# Altium integrated library Optocoupler.IntLib: 26 symbols
Pins are listed as number, name and electrical type; pins without a type are passive.

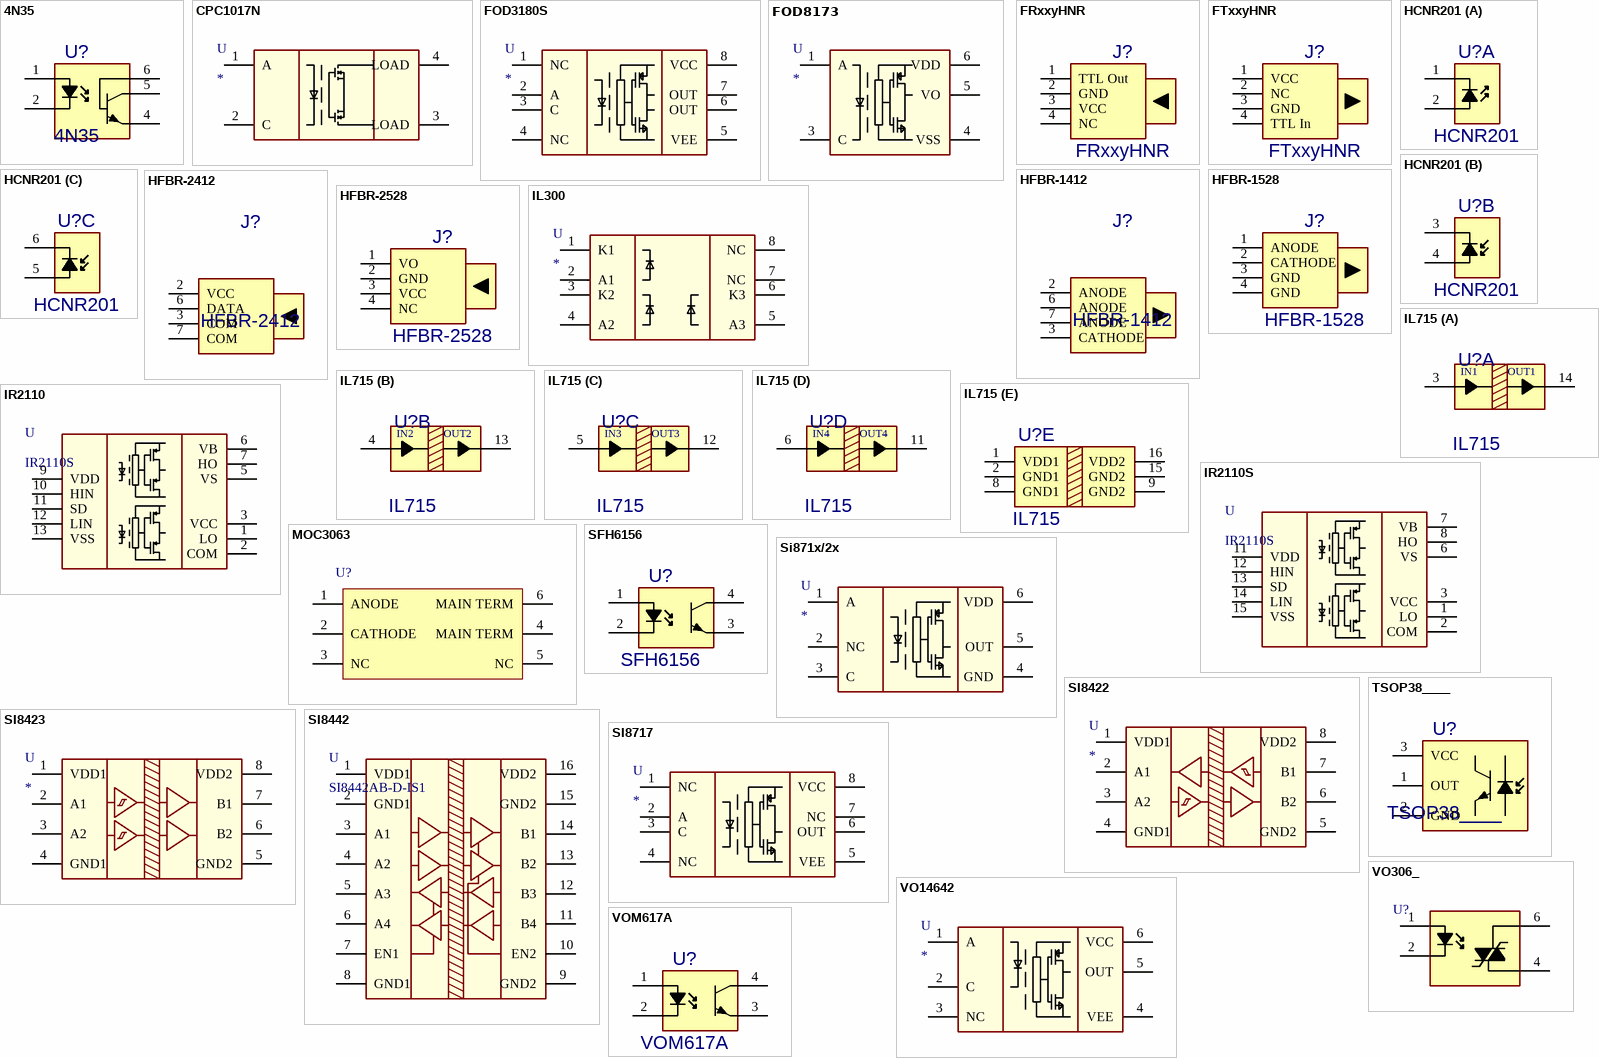
[diagram p0: symbols 4N35 to VOM617A]

## 4N35
designator U?
Optocoupler, Phototransistor Output, with Base Connection; Value: 4N35
footprint DIP6 P2.54 W7.62 H5.0 (8-Pin Dual in Line Integrated Circuit 2.54 Pitch, 7.62 Width, Case 8.5x6.5mm)
pins: 1 A, 2 K, 4 E, 5 C, 6 E

## CPC1017N
designator U
4-Pin SOP OptoMOS® Relay; Value: *
footprint SOP4 P2.54 C3.8X4.1 H2.0
pins: 1 A, 2 C, 3 LOAD (power), 4 LOAD (power)

## FOD3180S
designator U
Optocoupler; Value: *
footprint SO8L P2.54 C6.6X9.7 H5.0 (SOPL, 8-Leads, Body 6.6x9.7mm, Pitch 2.54mm, IPC High Density)
pins: 1 NC, 2 A, 3 C, 4 NC, 5 VEE (power), 6 OUT, 7 OUT, 8 VCC (power)

## FOD8173​
designator U
Gate Optocoupler; Value: *
footprint SO6 P1.27 C4.5X6.8 H3.5 (6-Pin Small Outline Integrated Circuit 1.27 mm Pitch, IPC Medium Density)
pins: 1 A, 3 C, 4 VSS (power), 5 VO, 6 VDD (power)

## FRxxyHNR
designator J?
Fiber Optic Receiver; Value: *
footprint FzxxyHNR (Connecteur fibre optique)
pins: 1 TTL Out, 2 GND (power), 3 VCC (power), 4 NC (power), 5 GND (power), 8 GND (power)

## FTxxyHNR
designator J?
Fiber Optic Transmitter; Value: *
footprint FzxxyHNR (Connecteur fibre optique)
pins: 1 VCC, 2 NC, 3 GND, 4 TTL In, 5 GND, 8 GND

## HCNR201
designator U?
High Linearity Analog Optocouplers; Value: HCNR201
footprint GullWing8 P2.54 C11.2x9.0 H4.0 (GullWing, 8-Leads, Body 11.2x9.0mm, Pitch 2.54mm)
part A pins: 1 LED C, 2 LED A
part B pins: 3 PD1 C, 4 PD1 A
part C pins: 5 PD2 A, 6 PD2 C

## HFBR-1412
designator J?
Fiber Optic Transmitter - HP; Value: *
footprint HFBR-X41X
pins: 1 NC hidden, 2 ANODE, 3 CATHODE, 4 NC hidden, 5 NC hidden, 6 ANODE, 7 ANODE, 8 NC hidden

## HFBR-1528
designator J?
Fiber Optic Transmitter - HP; Value: *
footprint HFBR-X528
pins: 1 ANODE, 2 CATHODE, 3 GND, 4 GND, 5 GND, 6 GND

## HFBR-2412
designator J?
Fiber Optic Receiver - HP; Value: *
footprint HFBR-X41X
pins: 1 NC hidden, 2 VCC, 3 COM, 4 NC hidden, 5 NC hidden, 6 DATA, 7 COM, 8 NC hidden

## HFBR-2528
designator J?
Fiber Optic Receiver; Value: *
footprint HFBR-X528
pins: 1 VO, 2 GND (power), 3 VCC (power), 4 NC (power), 5 GND (power), 6 GND (power)

## IL300
designator U
Optocoupler; Value: *
footprint SO8L P2.54 C6.6X9.7 H5.0 (SOPL, 8-Leads, Body 6.6x9.7mm, Pitch 2.54mm, IPC High Density)
pins: 1 K1, 2 A1, 3 K2, 4 A2, 5 A3 (power), 6 K3, 7 NC, 8 NC (power)

## IL715
designator U?
High Speed Four-Channel Digital Isolators; Value: IL715
footprint SO16W P1.27 C7.5x10.2 H2.65 (SOIC WIDE, 16-Leads, Body 10.20x7.50mm, Pitch 1.27mm, IPC Medium Density)
part A pins: 3 IN1, 14 OUT1
part B pins: 4 IN2, 13 OUT2
part C pins: 5 IN3, 12 OUT3
part D pins: 6 IN4, 11 OUT4
part E pins: 1 VDD1, 2 GND1, 7 NC hidden, 8 GND1, 9 GND2, 10 NC hidden, 15 GND2, 16 VDD2

## IR2110
designator U, comment IR2110S
HIGH AND LOW SIDE DRIVER; Value: IR2110S
footprint DIP14 (DIP 14 Pins, Pitch 6x 2.54x7.62)
pins: 1 LO, 2 COM, 3 VCC, 4 NC hidden, 5 VS, 6 VB, 7 HO (power), 8 NC (power) hidden, 9 VDD (power), 10 HIN (power), 11 SD (power), 12 LIN (power), 13 VSS (power), 14 NC (power) hidden

## IR2110S
designator U
HIGH AND LOW SIDE DRIVER; Value: IR2110S
footprint SO16W P1.27 C7.5x10.2 H2.65 (SOIC WIDE, 16-Leads, Body 10.20x7.50mm, Pitch 1.27mm, IPC Medium Density)
pins: 1 LO, 2 COM, 3 VCC, 4 NC hidden, 5 NC (power) hidden, 6 VS, 7 VB, 8 HO (power), 9 NC (power) hidden, 10 NC (power) hidden, 11 VDD (power), 12 HIN (power), 13 SD (power), 14 LIN (power), 15 VSS (power), 16 NC (power) hidden

## MOC3063
designator U?  (value not drawn)
value: *
footprint MDIP6L P2.54 C6.35X8.51 H5.0
pins: 1 ANODE, 2 CATHODE, 3 NC, 4 MAIN TERM, 5 NC, 6 MAIN TERM

## SFH6156
designator U?
Optocoupler, Phototransistor Output, High Reliability, 5300 VRMS; Value: *
footprint SO4L P2.54 C4.8x6.2 H3.8 (SOP4L C6.6x9.7mm P2.54mm, IPC HD)
pins: 1 A, 2 K, 3 E, 4 C

## Si871x/2x
designator U
5 KV LED EMULATOR INPUT, LOGIC OUTPUT ISOLATORS; Value: *
footprint SDIP6 P1.27 C4.6X7.5 H2.7 (SOIC, 6-Leads, Body 4.60x7.50mm, Pitch 1.27mm, IPC High Density)
pins: 1 A, 2 NC, 3 C, 4 GND (power), 5 OUT, 6 VDD (power)

## SI8422
designator U
Optocoupler; Value: *
footprint SO8 P1.27 C4.0X5.0 H1.75 (8-Pin Small Outline Integrated Circuit 1.27 mm Pitch, IPC Medium Density)
pins: 1 VDD1, 2 A1, 3 A2, 4 GND1, 5 GND2 (power), 6 B2, 7 B1, 8 VDD2 (power)

## SI8423
designator U
Optocoupler; Value: *
footprint SO8 P1.27 C4.0X5.0 H1.75 (8-Pin Small Outline Integrated Circuit 1.27 mm Pitch, IPC Medium Density)
pins: 1 VDD1, 2 A1, 3 A2, 4 GND1, 5 GND2 (power), 6 B2, 7 B1, 8 VDD2 (power)

## SI8442
designator U, comment SI8442AB-D-IS1
Optocoupler; Manufacturer: SI; Dealer: Mouser; Order Number: 634-SI8442AB-D-IS1; Value: SI8442AB-D-IS1
footprint SO16W P1.27 C7.5x10.2 H2.65 (SOIC WIDE, 16-Leads, Body 10.20x7.50mm, Pitch 1.27mm, IPC Medium Density)
pins: 1 VDD1, 2 GND1, 3 A1, 4 A2, 5 A3, 6 A4, 7 EN1, 8 GND1, 9 GND2 (power), 10 EN2, 11 B4, 12 B3 (power), 13 B2 (power), 14 B1, 15 GND2, 16 VDD2 (power)

## SI8717
designator U
Optocoupler; Value: *
footprint SO8 P1.27 C4.0X5.0 H1.75 (8-Pin Small Outline Integrated Circuit 1.27 mm Pitch, IPC Medium Density)
pins: 1 NC, 2 A, 3 C, 4 NC, 5 VEE (power), 6 OUT, 7 NC, 8 VCC (power)

## TSOP38____
designator U?
IR Receiver Module; Value: TSOP38____
footprint TSOP38___
pins: 1 OUT, 2 GND, 3 VCC

## VO306_
designator U?  (value not drawn)
Phototriac, Zero Crossing; value: *
footprint DIP6 P2.54 W7.62 H5.0 (8-Pin Dual in Line Integrated Circuit 2.54 Pitch, 7.62 Width, Case 8.5x6.5mm)
pins: 1 A, 2 C, 4 MT1, 6 MT2

## VO14642
designator U
Solid-State Relay; Value: *
footprint SO6L P2.54 C6.5X8.7 H4.6 (SOPL, 6-Leads, Body 6.5x8.7mm, Pitch 2.54mm, IPC High Density)
pins: 1 A, 2 C, 3 NC, 4 VEE (power), 5 OUT, 6 VCC (power)

## VOM617A
designator U?
Low Input Current, Phototransistor Output; Value: VOM617A
footprint SOP4 P2.54 C3.9x4.4 H3.8
pins: 1 A, 2 K, 3 E, 4 C